# Altium schematic symbol library RNF14FTD100K.SchLib: 2 symbols
Pins are listed as number, name and electrical type; pins without a type are passive.

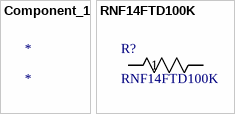
[diagram p0: symbols Component_1 to RNF14FTD100K]

## Component_1
designator *

## RNF14FTD100K
designator R?
No Description Available; Mfr_Name: Stackpole International; Copyright: Copyright (C) 2022 Ultra Librarian. All rights reserved.; Manufacturer_Part_Number: RNF14FTD100K; Digi-Key_Part_Number_1: RNF14FTD100KCT-ND; Digi-Key_Part_Number_2: RNF14FTD100KTR-ND; RefDes: RefDes; Type: DEV
footprint STA_RNF14_STP
pins: 1, 2